# Altium schematic symbol library SCH - CONNECTORS - HIROSE GT36-1-1P-DSA-B-.SchLib: 1 symbol
Pins are listed as number, name and electrical type; pins without a type are passive.

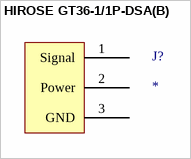
[diagram p0: symbol HIROSE GT36-1/1P-DSA(B)]

## HIROSE GT36-1/1P-DSA(B)
designator J?
Generally used for 1 terminal AM-FM Connector; =Part_Value: *
pins: 1 Signal, 2 Power (power), 3 GND (power)